# Altium footprint library TSMT8.PcbLib: 1 footprints
Each footprint in its own frame and in the unit in brackets; x right, y up, seen from the top. Pads: shape width x height; smd on the part's side, far side on the other; paste and mask are expansions set on the pad; w line width, h text height; cw(c..) or ccw(c..) is an arc to the next point about the centre after c.
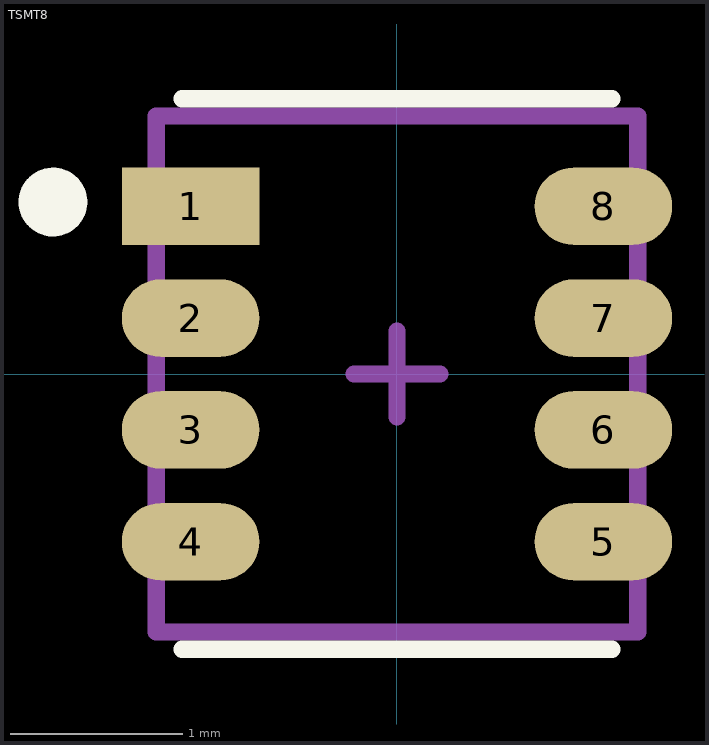
[diagram p0: the footprint, top view; thin cyan lines are the x and y axes]

## TSMT8 [mm]
pads (8):
  rect 0.8x0.45 smd mask+0: 1(-1.2,0.975)
  oval 0.8x0.45 smd mask+0: 2(-1.2,0.325) 3(-1.2,-0.325) 4(-1.2,-0.975) 5(1.2,-0.975) 6(1.2,-0.325) 7(1.2,0.325) 8(1.2,0.975)
Top Overlay:
  circle w0.2: c-2,1 r0.1
  lines w0.1: -1.25,-1.6 1.25,-1.6 ; -1.25,1.6 1.25,1.6
Mechanical 13:
  lines w0.1: -1.4,-1.5 -1.4,1.5 1.4,1.5 1.4,-1.5 -1.4,-1.5
Mechanical 15:
  lines w0.1: -0.25,0 0,0 ; 0,-0.25 0,0 ; 0.25,0 0,0 ; 0,0 0,0.25 0,0
3D body "TSMT8.stp": height 0.85, standoff 0, extent -1.4,-1.5 1.4,1.5